# Altium footprint library footprintLIB.PcbLib: 49 footprints (part 3 of 4)
Each footprint in its own frame and in the unit in brackets; x right, y up, seen from the top. Pads: shape width x height; smd on the part's side, far side on the other; paste and mask are expansions set on the pad; w line width, h text height; cw(c..) or ccw(c..) is an arc to the next point about the centre after c.
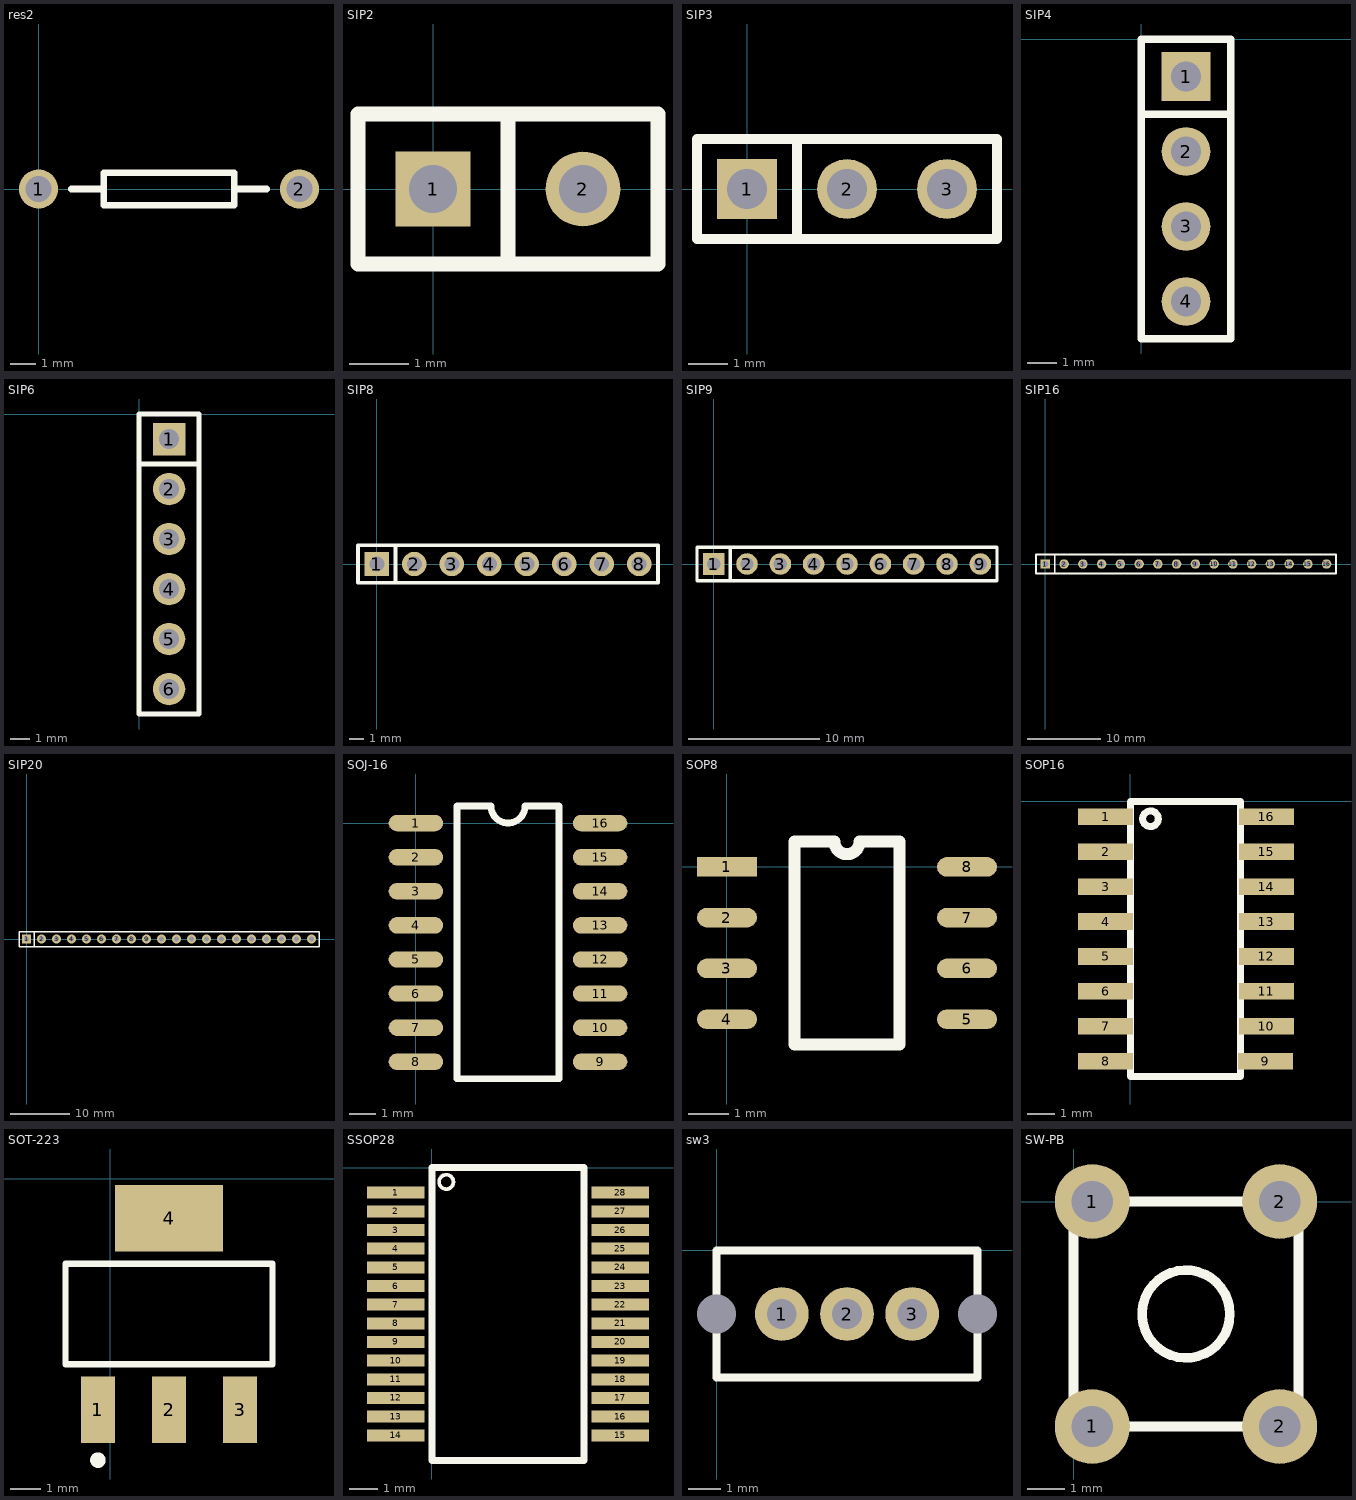
[diagram p2: the footprints below, top view; thin cyan lines are the x and y axes]

## res2 [mil]
pads (2):
  round 60 hole 40: 1(0,0) 2(400,0)
Top Overlay:
  lines w10: 50,0 100,0 ; 300,0 350,0 ; 100,0 100,25 300,25 300,-25 100,-25 100,0

## SIP2 [mil]
pads (2):
  rect 50x50 hole 32: 1(0,0)
  round 50 hole 32: 2(100,0)
Top Overlay:
  lines w10: 50,-50 50,50 ; -50,-50 150,-50 150,50 -50,50 -50,-50

## SIP3 [mil]
pads (3):
  rect 60x60 hole 40: 1(0,0)
  round 60 hole 40: 2(100,0) 3(200,0)
Top Overlay:
  lines w10: 50,-50 50,50 ; -50,-50 250,-50 250,50 -50,50 -50,-50

## SIP4 [mil]
pads (4):
  rect 65x65 hole 40: 1(60,-50)
  round 65 hole 40: 2(60,-150) 3(60,-250) 4(60,-350)
Top Overlay:
  lines w10: 0,-100 120,-100 ; 0,-400 120,-400 120,0 0,0 0,-400

## SIP6 [mil]
pads (6):
  rect 65x65 hole 40: 1(60,-50)
  round 65 hole 40: 2(60,-150) 3(60,-250) 4(60,-350) 5(60,-450) 6(60,-550)
Top Overlay:
  lines w10: 0,-100 120,-100 ; 0,-600 0,0 120,0 120,-600 0,-600

## SIP8 [mil]
pads (8):
  rect 65x65 hole 40: 1(0,0)
  round 65 hole 40: 2(100,0) 3(200,0) 4(300,0) 5(400,0) 6(500,0) 7(600,0) 8(700,0)
Top Overlay:
  lines w10: 50,-50 50,50 ; -50,-50 -50,50 750,50 750,-50 -50,-50

## SIP9 [mil]
pads (9):
  rect 65x65 hole 40: 1(0,0)
  round 65 hole 40: 2(100,0) 3(200,0) 4(300,0) 5(400,0) 6(500,0) 7(600,0) 8(700,0) 9(800,0)
Top Overlay:
  lines w10: 50,-50 50,50 ; -50,-50 -50,50 850,50 850,-50 -50,-50

## SIP16 [mil]
pads (16):
  rect 50x50 hole 32: 1(0,0)
  round 50 hole 32: 2(100,0) 3(200,0) 4(300,0) 5(400,0) 6(500,0) 7(600,0) 8(700,0) 9(800,0) 10(900,0) 11(1000,0) 12(1100,0) 13(1200,0) 14(1300,0) 15(1400,0) 16(1500,0)
Top Overlay:
  lines w10: 50,-50 50,50 ; -50,-50 -50,50 1550,50 1550,-50 -50,-50

## SIP20 [mm]
pads (20):
  rect 1.5x1.5 hole 0.813: 1(0,0)
  round 1.5 hole 0.813: 2(2.54,0) 3(5.08,0) 4(7.62,0) 5(10.16,0) 6(12.7,0) 7(15.24,0) 8(17.78,0) 9(20.32,0) 10(22.86,0) 11(25.4,0) 12(27.94,0) 13(30.48,0) 14(33.02,0) 15(35.56,0) 16(38.1,0) 17(40.64,0) 18(43.18,0) 19(45.72,0) 20(48.26,0)
Top Overlay:
  lines w0.254: 1.27,-1.27 1.27,1.27 ; -1.27,-1.27 -1.27,1.27 49.53,1.27 49.53,-1.27 -1.27,-1.27

## SOJ-16 [mil]
pads (16):
  oval 80x24 smd: 1(0,0) 2(0,-50) 3(0,-100) 4(0,-150) 5(0,-200) 6(0,-250) 7(0,-300) 8(0,-350) 9(270,-350) 10(270,-300) 11(270,-250) 12(270,-200) 13(270,-150) 14(270,-100) 15(270,-50) 16(270,0)
Top Overlay:
  lines w10: 60,-375 210,-375 210,25 160,25 cw(c135,25) 110,25 60,25 60,-375

## SOP8 [mm]
pads (8):
  rect 1.5x0.49 smd: 1(0,0)
  oval 1.5x0.49 smd: 2(0,-1.27) 3(0,-2.54) 4(0,-3.81) 5(6,-3.81) 6(6,-2.54) 7(6,-1.27) 8(6,0)
Top Overlay:
  lines w0.3: 1.685,-4.445 1.685,0.635 2.682,0.635 ccw(c3,0.635) 3.317,0.635 4.315,0.635 4.315,-4.445 1.685,-4.445

## SOP16 [mm]
pads (16):
  rect 2x0.6 smd: 1(-0.9,-0.555) 2(-0.9,-1.825) 3(-0.9,-3.095) 4(-0.9,-4.365) 5(-0.9,-5.635) 6(-0.9,-6.905) 7(-0.9,-8.175) 8(-0.9,-9.445) 9(4.9,-9.445) 10(4.942,-8.175) 11(4.942,-6.905) 12(4.942,-5.635) 13(4.942,-4.365) 14(4.942,-3.095) 15(4.942,-1.825) 16(4.942,-0.555)
Top Overlay:
  circle w0.254: c0.732,-0.635 r0.284
  lines w0.254: 0,-10 4,-10 4,0 0,0 0,-10

## SOT-223 [mm]
pads (4):
  rect 1.1x2.15 smd: 1(-0.395,-7.47) 2(1.905,-7.47) 3(4.205,-7.47)
  rect 3.5x2.15 smd: 4(1.905,-1.27)
Top Overlay:
  circle w0.25: c-0.395,-9.095 r0.125
  lines w0.2: -1.445,-5.995 -1.445,-2.745 5.255,-2.745 5.255,-5.995 -1.445,-5.995

## SSOP28 [mm] "SSOP28forPL2303"
pads (28):
  rect 2x0.42 smd: 1(-1.254,-0.875) 2(-1.254,-1.525) 3(-1.254,-2.175) 4(-1.254,-2.825) 5(-1.254,-3.475) 6(-1.254,-4.125) 7(-1.254,-4.775) 8(-1.254,-5.425) 9(-1.254,-6.075) 10(-1.254,-6.725) 11(-1.254,-7.375) 12(-1.254,-8.025) 13(-1.254,-8.675) 14(-1.254,-9.325) 15(6.554,-9.325) 16(6.554,-8.675) 17(6.554,-8.025) 18(6.554,-7.375) 19(6.554,-6.725) 20(6.554,-6.075) 21(6.554,-5.425) 22(6.554,-4.775) 23(6.554,-4.125) 24(6.554,-3.475) 25(6.554,-2.825) 26(6.554,-2.175) 27(6.554,-1.525) 28(6.554,-0.875)
Top Overlay:
  circle w0.127: c0.5,-0.5 r0.25
  lines w0.254: 0,-10.2 5.3,-10.2 5.3,0 0,0 0,-10.2

## sw3 [mm]
pads (5):
  round 1.651 hole 0.914: 1(2,-1.95) 2(4,-1.95) 3(6,-1.95)
  round 0 hole 1.2: ""(0,-1.95) ""(8,-1.95)
Top Overlay:
  lines w0.254: 0,-3.9 0,0 8,0 8,-3.9 0,-3.9

## SW-PB [mm]
pads (4):
  round 2 hole 1.1: 1(0.5,-6) 1(0.5,0) 2(5.5,-6) 2(5.5,0)
Top Overlay:
  circle w0.254: c3,-3 r1.171
  lines w0.254: 0,-6 6,-6 6,0 0,0 0,-6